# EAGLE library part DSPIC30F2020-30I/SO (library Microchip_By_element14_Batch_1)
Digital Signal Controllers
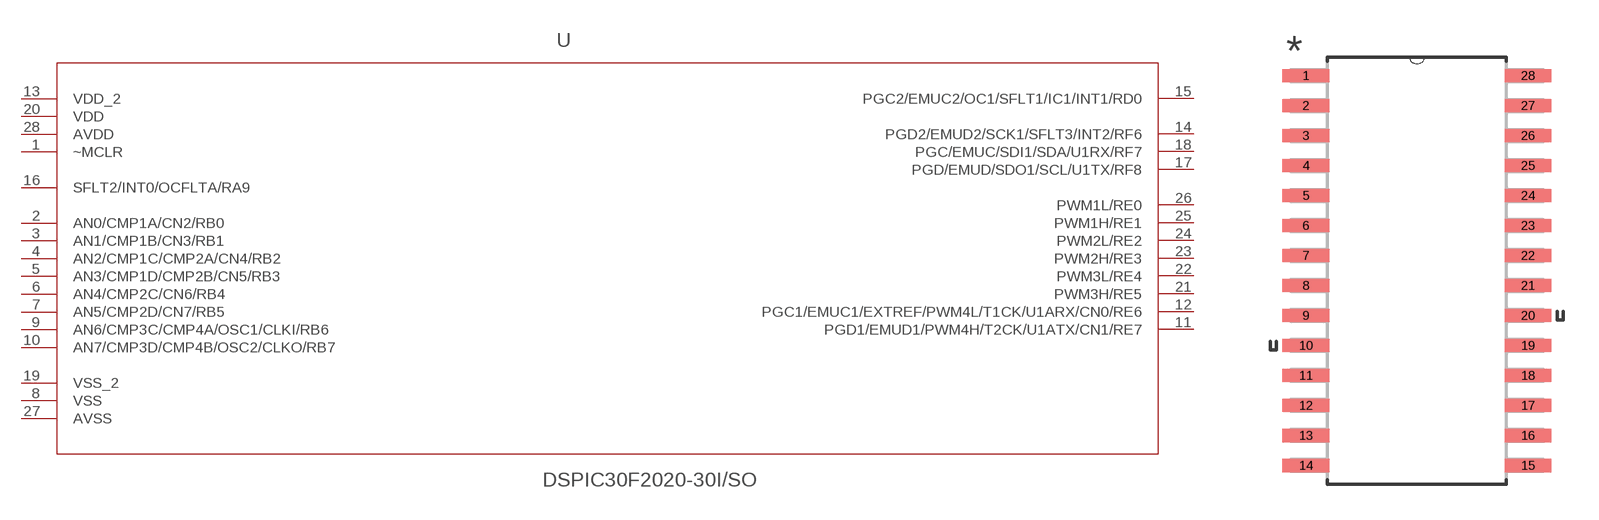
[diagram p283: symbol with the pads of SOIC127P1034X264-28N; footprint SOIC127P1034X264-28N]

Designator prefix -

## DSPIC30F2020-30I/SO (MPN: DSPIC30F2020-30I/SO; OC_FARNELL: 1332026; OC_NEWARK: 88K3882; PACKAGE: SOIC-28; SUPPLIER: Microchip)  [SOIC127P1034X264-28N]
1  ~MCLR  in
2  AN0/CMP1A/CN2/RB0
3  AN1/CMP1B/CN3/RB1
4  AN2/CMP1C/CMP2A/CN4/RB2
5  AN3/CMP1D/CMP2B/CN5/RB3
6  AN4/CMP2C/CN6/RB4
7  AN5/CMP2D/CN7/RB5
8  VSS  pwr
9  AN6/CMP3C/CMP4A/OSC1/CLKI/RB6
10  AN7/CMP3D/CMP4B/OSC2/CLKO/RB7
11  PGD1/EMUD1/PWM4H/T2CK/U1ATX/CN1/RE7
12  PGC1/EMUC1/EXTREF/PWM4L/T1CK/U1ARX/CN0/RE6
13  VDD_2  pwr
14  PGD2/EMUD2/SCK1/SFLT3/INT2/RF6
15  PGC2/EMUC2/OC1/SFLT1/IC1/INT1/RD0
16  SFLT2/INT0/OCFLTA/RA9
17  PGD/EMUD/SDO1/SCL/U1TX/RF8
18  PGC/EMUC/SDI1/SDA/U1RX/RF7
19  VSS_2  pwr
20  VDD  pwr
21  PWM3H/RE5
22  PWM3L/RE4
23  PWM2H/RE3
24  PWM2L/RE2
25  PWM1H/RE1
26  PWM1L/RE0
27  AVSS  pwr
28  AVDD  pwr

## Footprint SOIC127P1034X264-28N (pad centres in mm)
smd 1.981 x 0.559: 1 -4.699,8.255; 2 -4.699,6.985; 3 -4.699,5.715; 4 -4.699,4.445; 5 -4.699,3.175; 6 -4.699,1.905; 7 -4.699,0.635; 8 -4.699,-0.635; 9 -4.699,-1.905; 10 -4.699,-3.175; 11 -4.699,-4.445; 12 -4.699,-5.715; 13 -4.699,-6.985; 14 -4.699,-8.255; 15 4.699,-8.255; 16 4.699,-6.985; 17 4.699,-5.715; 18 4.699,-4.445; 19 4.699,-3.175; 20 4.699,-1.905; 21 4.699,-0.635; 22 4.699,0.635; 23 4.699,1.905; 24 4.699,3.175; 25 4.699,4.445; 26 4.699,5.715; 27 4.699,6.985; 28 4.699,8.255